# Altium integrated library National Semiconductor MiscPower.IntLib: 1552 symbols (part 24 of 43)
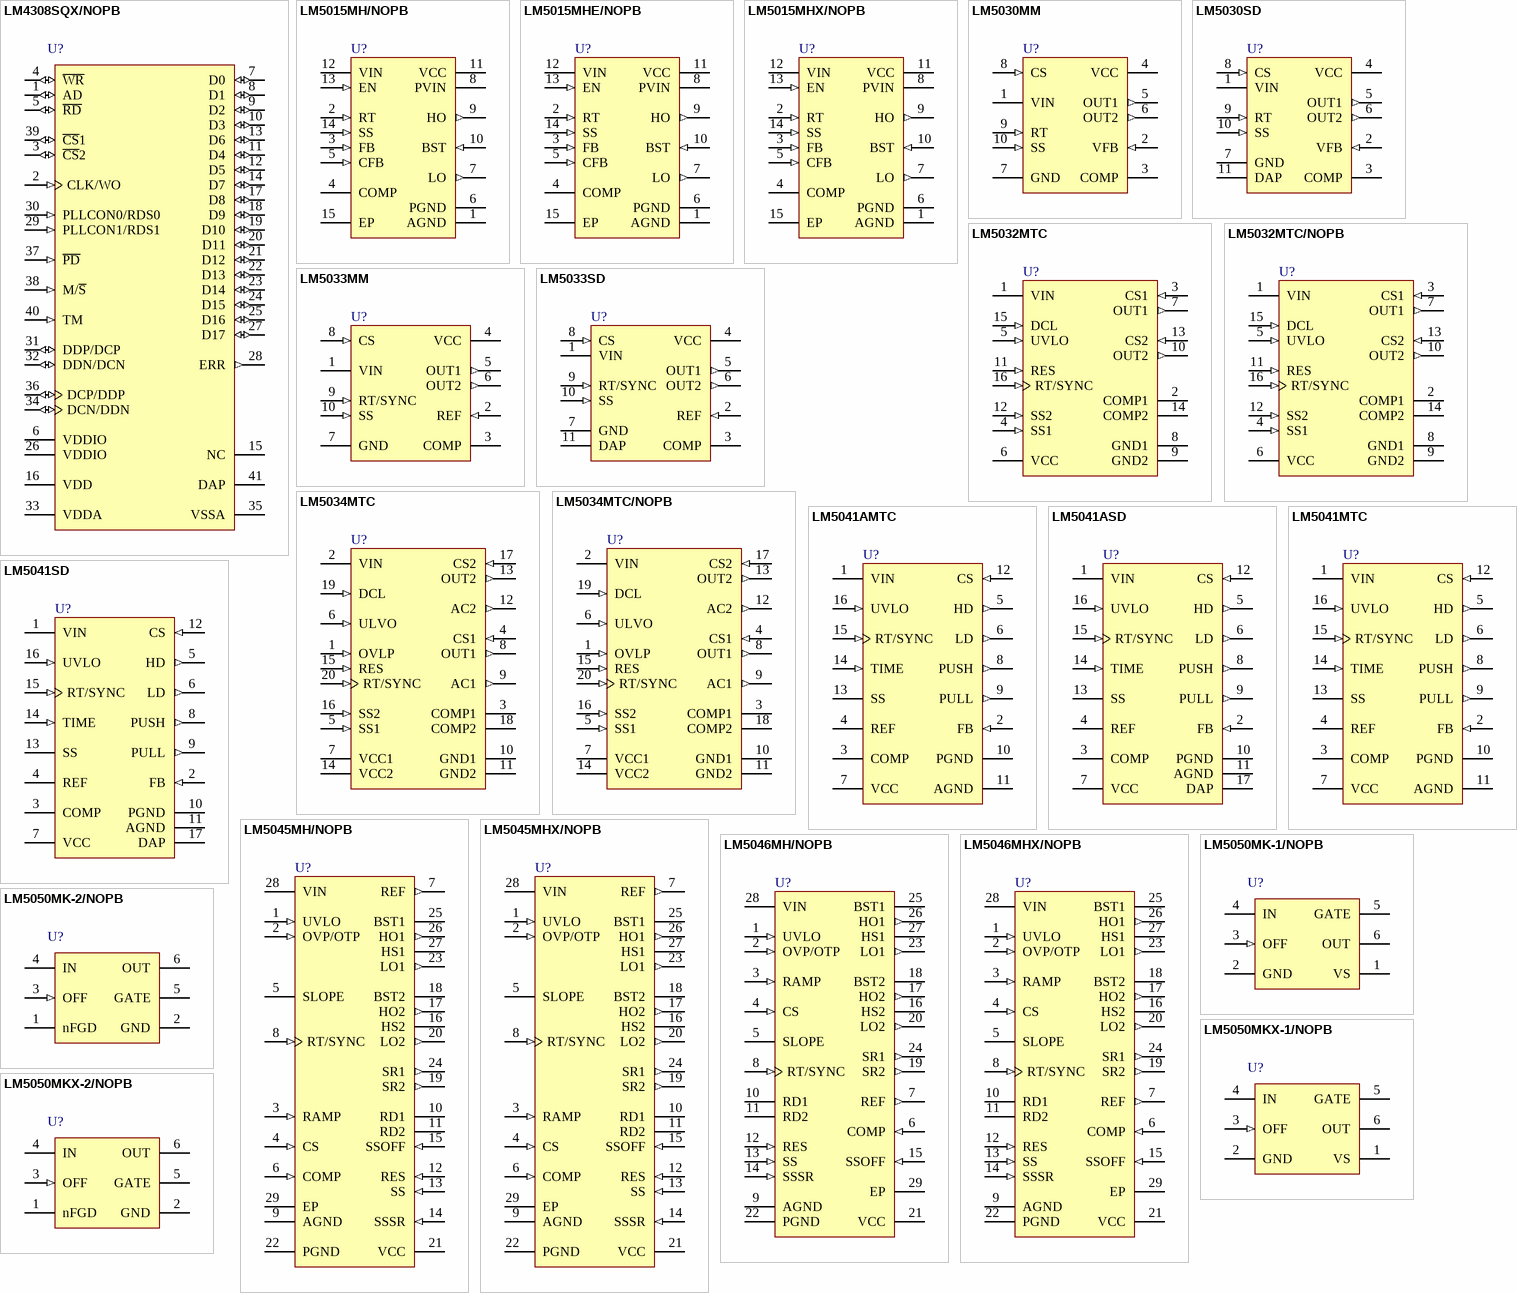
[diagram p80: symbols LM4308SQX/NOPB to LM5050MKX-2/NOPB]

## LM5034MTC/NOPB
designator U?
High Voltage Dual Interleaved Current Mode Controller with Active Clamp, 20-pin TSSOP, Pb-Free; PartNumber: LM5034MTC/NOPB; Manufacturer: National Semiconductor; PackageTopMarking: NSUZXYTT*LM5034*MT; PowerWise: Y; CompType: MiscPower; DatasheetVersion: Feb-2005; PackageVersion: revE, Mar-2003; PackageReference: MTC20; PackageDescription: Molded TSSOP, Jedec, 6.5 x 4.4 x 0.9mm Body, 20 Lead, 0.65mm Pitch; RoHS: Y; PinCount: 20; High-Reliability: Y; Code_JEDEC: MO-153-AC; ComponentLink1Description: Manufacturer URL; ComponentLink1URL: http://www.national.com/; ComponentLink2Description: LM5034 Datasheet; ComponentLink2URL: http://www.national.com/ds/LM/LM5034.pdf; ComponentLink3Description: LM5034 Web Page; ComponentLink3URL: http://www.national.com/pf/LM/LM5034.html; ComponentLink4Description: MTC20 Package Page; ComponentLink4URL: http://www.national.com/packaging/folders/mtc20.html
footprint MTC20_N (TSOP, 20-Leads, Body 6.5x4.4mm, Pitch 0.65mm, IPC Medium Density)
footprint MTC20_L (TSOP, 20-Leads, Body 6.5x4.4mm, Pitch 0.65mm, IPC High Density)
footprint MTC20_M (TSOP, 20-Leads, Body 6.5x4.4mm, Pitch 0.65mm, IPC Low Density)
pins: 1 OVLP (in), 2 VIN (power), 3 COMP1, 4 CS1 (in), 5 SS1 (in), 6 ULVO (in), 7 VCC1 (power), 8 OUT1 (out), 9 AC1 (out), 10 GND1 (power), 11 GND2 (power), 12 AC2 (out), 13 OUT2 (out), 14 VCC2 (power), 15 RES (in), 16 SS2 (in), 17 CS2 (in), 18 COMP2, 19 DCL (in), 20 RT/SYNC (in)

## LM5041AMTC
designator U?
Cascaded PWM Controller, 16-pin TSSOP; PartNumber: LM5041AMTC; Manufacturer: National Semiconductor; PackageTopMarking: NSUZXYTT*LM5041A*MTC; PowerWise: Y; CompType: MiscPower; DatasheetVersion: May-2005; PackageVersion: revD, Jun-2003; PackageReference: MTC16; PackageDescription: Molded TSSOP, Jedec, 5 x 4.4 x 0.9mm Body, 16 Lead, 0.65mm Pitch; RoHS: N; PinCount: 16; High-Reliability: Y; Code_JEDEC: MO-153-AB; ComponentLink1Description: Manufacturer URL; ComponentLink1URL: http://www.national.com/; ComponentLink2Description: LM5041A Datasheet; ComponentLink2URL: http://www.national.com/ds/LM/LM5041A.pdf; ComponentLink3Description: LM5041A Web Page; ComponentLink3URL: http://www.national.com/pf/LM/LM5041A.html; ComponentLink4Description: MTC16 Package Page; ComponentLink4URL: http://www.national.com/packaging/folders/mtc16.html
footprint MTC16_N (TSOP, 16-Leads, Body 5x4.4mm, Pitch 0.65mm, IPC Medium Density)
footprint MTC16_L (TSOP, 16-Leads, Body 5x4.4mm, Pitch 0.65mm, IPC High Density)
footprint MTC16_M (TSOP, 16-Leads, Body 5x4.4mm, Pitch 0.65mm, IPC Low Density)
pins: 1 VIN (power), 2 FB (in), 3 COMP, 4 REF (power), 5 HD (out), 6 LD (out), 7 VCC (power), 8 PUSH (out), 9 PULL (out), 10 PGND (power), 11 AGND (power), 12 CS (in), 13 SS, 14 TIME (in), 15 RT/SYNC (in), 16 UVLO (in)

## LM5041ASD
designator U?
Cascaded PWM Controller, 16-pin LLP; PartNumber: LM5041ASD; Manufacturer: National Semiconductor; PackageTopMarking: NS*UZXYTT*5041ASD; PowerWise: Y; CompType: MiscPower; DatasheetVersion: May-2005; PackageVersion: revA, May-2003; PackageReference: SDA16A; PackageDescription: LLP, Plastic, Dual, 5 x 5 x 0.8mm Body,16 Lead, 0.5mm Pitch, No Pullback; RoHS: N; PinCount: 16; High-Reliability: Y; ComponentLink1Description: Manufacturer URL; ComponentLink1URL: http://www.national.com/; ComponentLink2Description: LM5041A Datasheet; ComponentLink2URL: http://www.national.com/ds/LM/LM5041A.pdf; ComponentLink3Description: LM5041A Web Page; ComponentLink3URL: http://www.national.com/pf/LM/LM5041A.html; ComponentLink4Description: SDA16A Package Page; ComponentLink4URL: http://www.national.com/packaging/folders/sda16a.html
footprint SDA16A (SON, 16-Leads, Body 5x5mm, Pitch 0.5mm, NSC Recommended)
pins: 1 VIN (power), 2 FB (in), 3 COMP, 4 REF (power), 5 HD (out), 6 LD (out), 7 VCC (power), 8 PUSH (out), 9 PULL (out), 10 PGND (power), 11 AGND (power), 12 CS (in), 13 SS, 14 TIME (in), 15 RT/SYNC (in), 16 UVLO (in), 17 DAP (power)

## LM5041MTC
designator U?
Cascaded PWM Controller, 16-pin TSSOP; PartNumber: LM5041MTC; Manufacturer: National Semiconductor; PackageTopMarking: NSZXYTT*LM5041*MTC; PowerWise: Y; CompType: MiscPower; DatasheetVersion: Apr-2004; PackageVersion: revD, Jun-2003; PackageReference: MTC16; PackageDescription: Molded TSSOP, Jedec, 5 x 4.4 x 0.9mm Body, 16 Lead, 0.65mm Pitch; RoHS: N; PinCount: 16; High-Reliability: Y; Code_JEDEC: MO-153-AB; ComponentLink1Description: Manufacturer URL; ComponentLink1URL: http://www.national.com/; ComponentLink2Description: LM5041 Datasheet; ComponentLink2URL: http://www.national.com/ds/LM/LM5041.pdf; ComponentLink3Description: LM5041 Web Page; ComponentLink3URL: http://www.national.com/pf/LM/LM5041.html; ComponentLink4Description: MTC16 Package Page; ComponentLink4URL: http://www.national.com/packaging/folders/mtc16.html
footprint MTC16_N (TSOP, 16-Leads, Body 5x4.4mm, Pitch 0.65mm, IPC Medium Density)
footprint MTC16_L (TSOP, 16-Leads, Body 5x4.4mm, Pitch 0.65mm, IPC High Density)
footprint MTC16_M (TSOP, 16-Leads, Body 5x4.4mm, Pitch 0.65mm, IPC Low Density)
pins: 1 VIN (power), 2 FB (in), 3 COMP, 4 REF (power), 5 HD (out), 6 LD (out), 7 VCC (power), 8 PUSH (out), 9 PULL (out), 10 PGND (power), 11 AGND (power), 12 CS (in), 13 SS, 14 TIME (in), 15 RT/SYNC (in), 16 UVLO (in)

## LM5041SD
designator U?
Cascaded PWM Controller, 16-pin LLP; PartNumber: LM5041SD; Manufacturer: National Semiconductor; PackageTopMarking: NS*UZXYTT*5041SD; PowerWise: Y; CompType: MiscPower; DatasheetVersion: Apr-2004; PackageVersion: revA, May-2003; PackageReference: SDA16A; PackageDescription: LLP, Plastic, Dual, 5 x 5 x 0.8mm Body,16 Lead, 0.5mm Pitch, No Pullback; RoHS: N; PinCount: 16; High-Reliability: Y; ComponentLink1Description: Manufacturer URL; ComponentLink1URL: http://www.national.com/; ComponentLink2Description: LM5041 Datasheet; ComponentLink2URL: http://www.national.com/ds/LM/LM5041.pdf; ComponentLink3Description: LM5041 Web Page; ComponentLink3URL: http://www.national.com/pf/LM/LM5041.html; ComponentLink4Description: SDA16A Package Page; ComponentLink4URL: http://www.national.com/packaging/folders/sda16a.html
footprint SDA16A (SON, 16-Leads, Body 5x5mm, Pitch 0.5mm, NSC Recommended)
pins: 1 VIN (power), 2 FB (in), 3 COMP, 4 REF (power), 5 HD (out), 6 LD (out), 7 VCC (power), 8 PUSH (out), 9 PULL (out), 10 PGND (power), 11 AGND (power), 12 CS (in), 13 SS, 14 TIME (in), 15 RT/SYNC (in), 16 UVLO (in), 17 DAP (power)

## LM5045MH/NOPB
designator U?
Full-Bridge PWM Controller with Integrated MOSFET Drivers, 28-pin TSSOP-EP, 48 Rail; PartNumber: LM5045MH/NOPB; Manufacturer: National Semiconductor; PackageTopMarking: NSUZXYTTE#*LM5045*MH; PowerWise: Y; CompType: Switcher; DatasheetVersion: Oct-2011; PackageVersion: revD, Oct-2003; PackageReference: MXA28A; PackageDescription: Molded TSSOP, Jedec, 9.7 x 4.4 x 0.9mm Body, 28 Lead, 0.65mm Pitch, Exposed Pad; RoHS: Y; PinCount: 28; High-Reliability: Y; Code_JEDEC: MO-153-AET; ComponentLink1Description: Manufacturer URL; ComponentLink1URL: http://www.national.com/; ComponentLink2Description: LM5045 Datasheet; ComponentLink2URL: http://www.national.com/ds/LM/LM5045.pdf; ComponentLink3Description: LM5045 Web Page; ComponentLink3URL: http://www.national.com/pf/LM/LM5045.html; ComponentLink4Description: MXA28A Package Page; ComponentLink4URL: http://www.national.com/packaging/folders/mxa28a.html
footprint MXA28A_N (TSOP, 28-Leads, Body 9.7x4.4mm, Pitch 0.65mm, Thermal Pad, IPC Medium Density)
footprint MXA28A_L (TSOP, 28-Leads, Body 9.7x4.4mm, Pitch 0.65mm, Thermal Pad, IPC High Density)
footprint MXA28A_M (TSOP, 28-Leads, Body 9.7x4.4mm, Pitch 0.65mm, Thermal Pad, IPC Low Density)
pins: 1 UVLO (in), 2 OVP/OTP (in), 3 RAMP (in), 4 CS (in), 5 SLOPE, 6 COMP (in), 7 REF (out), 8 RT/SYNC (in), 9 AGND (power), 10 RD1, 11 RD2, 12 RES (in), 13 SS (in), 14 SSSR (in), 15 SSOFF (in), 16 HS2, 17 HO2 (out), 18 BST2, 19 SR2 (out), 20 LO2 (out), 21 VCC (power), 22 PGND (power), 23 LO1 (out), 24 SR1 (out), 25 BST1, 26 HO1 (out), 27 HS1, 28 VIN (power), 29 EP (power)

## LM5045MHX/NOPB
designator U?
Full-Bridge PWM Controller with Integrated MOSFET Drivers, 28-pin TSSOP-EP, 2500 Reel; PartNumber: LM5045MHX/NOPB; Manufacturer: National Semiconductor; PackageTopMarking: NSUZXYTTE#*LM5045*MH; PowerWise: Y; CompType: Switcher; DatasheetVersion: Oct-2011; PackageVersion: revD, Oct-2003; PackageReference: MXA28A; PackageDescription: Molded TSSOP, Jedec, 9.7 x 4.4 x 0.9mm Body, 28 Lead, 0.65mm Pitch, Exposed Pad; RoHS: Y; PinCount: 28; High-Reliability: Y; Code_JEDEC: MO-153-AET; ComponentLink1Description: Manufacturer URL; ComponentLink1URL: http://www.national.com/; ComponentLink2Description: LM5045 Datasheet; ComponentLink2URL: http://www.national.com/ds/LM/LM5045.pdf; ComponentLink3Description: LM5045 Web Page; ComponentLink3URL: http://www.national.com/pf/LM/LM5045.html; ComponentLink4Description: MXA28A Package Page; ComponentLink4URL: http://www.national.com/packaging/folders/mxa28a.html
footprint MXA28A_N (TSOP, 28-Leads, Body 9.7x4.4mm, Pitch 0.65mm, Thermal Pad, IPC Medium Density)
footprint MXA28A_L (TSOP, 28-Leads, Body 9.7x4.4mm, Pitch 0.65mm, Thermal Pad, IPC High Density)
footprint MXA28A_M (TSOP, 28-Leads, Body 9.7x4.4mm, Pitch 0.65mm, Thermal Pad, IPC Low Density)
pins: 1 UVLO (in), 2 OVP/OTP (in), 3 RAMP (in), 4 CS (in), 5 SLOPE, 6 COMP (in), 7 REF (out), 8 RT/SYNC (in), 9 AGND (power), 10 RD1, 11 RD2, 12 RES (in), 13 SS (in), 14 SSSR (in), 15 SSOFF (in), 16 HS2, 17 HO2 (out), 18 BST2, 19 SR2 (out), 20 LO2 (out), 21 VCC (power), 22 PGND (power), 23 LO1 (out), 24 SR1 (out), 25 BST1, 26 HO1 (out), 27 HS1, 28 VIN (power), 29 EP (power)

## LM5046MH/NOPB
designator U?
Phase-Shifted Full-Bridge PWM Controller with Integrated MOSFET Drivers, 28-pin TSSOP-EP, 48 Rail; PartNumber: LM5046MH/NOPB; Manufacturer: National Semiconductor; PackageTopMarking: NSUZXYTTE#*LM5046*MH; PowerWise: Y; CompType: MiscPower; DatasheetVersion: Oct-2011; PackageVersion: revD, Oct-2003; PackageReference: MXA28A; PackageDescription: Molded TSSOP, Jedec, 9.7 x 4.4 x 0.9mm Body, 28 Lead, 0.65mm Pitch, Exposed Pad; RoHS: Y; PinCount: 28; High-Reliability: Y; Code_JEDEC: MO-153-AET; ComponentLink1Description: Manufacturer URL; ComponentLink1URL: http://www.national.com/; ComponentLink2Description: LM5046 Datasheet; ComponentLink2URL: http://www.national.com/ds/LM/LM5046.pdf; ComponentLink3Description: LM5046 Web Page; ComponentLink3URL: http://www.national.com/pf/LM/LM5046.html; ComponentLink4Description: MXA28A Package Page; ComponentLink4URL: http://www.national.com/packaging/folders/mxa28a.html
footprint MXA28A_N (TSOP, 28-Leads, Body 9.7x4.4mm, Pitch 0.65mm, Thermal Pad, IPC Medium Density)
footprint MXA28A_L (TSOP, 28-Leads, Body 9.7x4.4mm, Pitch 0.65mm, Thermal Pad, IPC High Density)
footprint MXA28A_M (TSOP, 28-Leads, Body 9.7x4.4mm, Pitch 0.65mm, Thermal Pad, IPC Low Density)
pins: 1 UVLO (in), 2 OVP/OTP (in), 3 RAMP (in), 4 CS (in), 5 SLOPE, 6 COMP (in), 7 REF (out), 8 RT/SYNC (in), 9 AGND (power), 10 RD1, 11 RD2, 12 RES (in), 13 SS (in), 14 SSSR (in), 15 SSOFF (in), 16 HS2, 17 HO2 (out), 18 BST2, 19 SR2 (out), 20 LO2 (out), 21 VCC (power), 22 PGND (power), 23 LO1 (out), 24 SR1 (out), 25 BST1, 26 HO1 (out), 27 HS1, 28 VIN (power), 29 EP (power)

## LM5046MHX/NOPB
designator U?
Phase-Shifted Full-Bridge PWM Controller with Integrated MOSFET Drivers, 28-pin TSSOP-EP, 2500 Reel; PartNumber: LM5046MHX/NOPB; Manufacturer: National Semiconductor; PackageTopMarking: NSUZXYTTE#*LM5046*MH; PowerWise: Y; CompType: MiscPower; DatasheetVersion: Oct-2011; PackageVersion: revD, Oct-2003; PackageReference: MXA28A; PackageDescription: Molded TSSOP, Jedec, 9.7 x 4.4 x 0.9mm Body, 28 Lead, 0.65mm Pitch, Exposed Pad; RoHS: Y; PinCount: 28; High-Reliability: Y; Code_JEDEC: MO-153-AET; ComponentLink1Description: Manufacturer URL; ComponentLink1URL: http://www.national.com/; ComponentLink2Description: LM5046 Datasheet; ComponentLink2URL: http://www.national.com/ds/LM/LM5046.pdf; ComponentLink3Description: LM5046 Web Page; ComponentLink3URL: http://www.national.com/pf/LM/LM5046.html; ComponentLink4Description: MXA28A Package Page; ComponentLink4URL: http://www.national.com/packaging/folders/mxa28a.html
footprint MXA28A_N (TSOP, 28-Leads, Body 9.7x4.4mm, Pitch 0.65mm, Thermal Pad, IPC Medium Density)
footprint MXA28A_L (TSOP, 28-Leads, Body 9.7x4.4mm, Pitch 0.65mm, Thermal Pad, IPC High Density)
footprint MXA28A_M (TSOP, 28-Leads, Body 9.7x4.4mm, Pitch 0.65mm, Thermal Pad, IPC Low Density)
pins: 1 UVLO (in), 2 OVP/OTP (in), 3 RAMP (in), 4 CS (in), 5 SLOPE, 6 COMP (in), 7 REF (out), 8 RT/SYNC (in), 9 AGND (power), 10 RD1, 11 RD2, 12 RES (in), 13 SS (in), 14 SSSR (in), 15 SSOFF (in), 16 HS2, 17 HO2 (out), 18 BST2, 19 SR2 (out), 20 LO2 (out), 21 VCC (power), 22 PGND (power), 23 LO1 (out), 24 SR1 (out), 25 BST1, 26 HO1 (out), 27 HS1, 28 VIN (power), 29 EP (power)

## LM5050MK-1/NOPB
designator U?
High Side OR-ing FET Controller, 6-pin TSOT, 1000 Reel; PartNumber: LM5050MK-1/NOPB; Manufacturer: National Semiconductor; PackageTopMarking: SZHB*XTT; PowerWise: Y; CompType: MiscPower; DatasheetVersion: Sep-2011; PackageVersion: revE, Nov-2008; PackageReference: MK06A; PackageDescription: Molded TSOT, 2.97 x 1.65 x 0.87mm Body, 6 Lead, 0.95mm Pitch; RoHS: Y; PinCount: 6; High-Reliability: Y; Code_JEDEC: MO-193-AA; Code_IPC: SOT26A-6; ComponentLink1Description: Manufacturer URL; ComponentLink1URL: http://www.national.com/; ComponentLink2Description: LM5050-1 Datasheet; ComponentLink2URL: http://www.national.com/ds/LM/LM5050-1.pdf; ComponentLink3Description: LM5050-1 Web Page; ComponentLink3URL: http://www.national.com/pf/LM/LM5050-1.html; ComponentLink4Description: MK06A Package Page; ComponentLink4URL: http://www.national.com/packaging/folders/mk06a.html
footprint MK06A_N (SOT23, 6-Leads, Body 3.0x1.7mm, Pitch 0.95mm, Lead Span 2.9mm, IPC Medium Density)
footprint MK06A_L (SOT23, 6-Leads, Body 3.0x1.7mm, Pitch 0.95mm, Lead Span 2.9mm, IPC High Density)
footprint MK06A_M (SOT23, 6-Leads, Body 3.0x1.7mm, Pitch 0.95mm, Lead Span 2.9mm, IPC Low Density)
pins: 1 VS (power), 2 GND (power), 3 OFF (in), 4 IN (power), 5 GATE (power), 6 OUT (power)

## LM5050MK-2/NOPB
designator U?
High Side OR-ing FET Controller, FET test diagnostic mode, 6-pin TSOT, 1000 Reel; PartNumber: LM5050MK-2/NOPB; Manufacturer: National Semiconductor; PackageTopMarking: SZJB*XTT; PowerWise: Y; CompType: MiscPower; DatasheetVersion: Nov-2010; PackageVersion: revE, Nov-2008; PackageReference: MK06A; PackageDescription: Molded TSOT, 2.97 x 1.65 x 0.87mm Body, 6 Lead, 0.95mm Pitch; RoHS: Y; PinCount: 6; High-Reliability: Y; Code_JEDEC: MO-193-AA; Code_IPC: SOT26A-6; ComponentLink1Description: Manufacturer URL; ComponentLink1URL: http://www.national.com/; ComponentLink2Description: LM5050-2 Datasheet; ComponentLink2URL: http://www.national.com/ds/LM/LM5050-2.pdf; ComponentLink3Description: LM5050-2 Web Page; ComponentLink3URL: http://www.national.com/pf/LM/LM5050-2.html; ComponentLink4Description: MK06A Package Page; ComponentLink4URL: http://www.national.com/packaging/folders/mk06a.html
footprint MK06A_N (SOT23, 6-Leads, Body 3.0x1.7mm, Pitch 0.95mm, Lead Span 2.9mm, IPC Medium Density)
footprint MK06A_L (SOT23, 6-Leads, Body 3.0x1.7mm, Pitch 0.95mm, Lead Span 2.9mm, IPC High Density)
footprint MK06A_M (SOT23, 6-Leads, Body 3.0x1.7mm, Pitch 0.95mm, Lead Span 2.9mm, IPC Low Density)
pins: 1 nFGD (oc), 2 GND (power), 3 OFF (in), 4 IN, 5 GATE, 6 OUT

## LM5050MKX-1/NOPB
designator U?
High Side OR-ing FET Controller, 6-pin TSOT, 3000 Reel; PartNumber: LM5050MKX-1/NOPB; Manufacturer: National Semiconductor; PackageTopMarking: SZHB*XTT; PowerWise: Y; CompType: MiscPower; DatasheetVersion: Sep-2011; PackageVersion: revE, Nov-2008; PackageReference: MK06A; PackageDescription: Molded TSOT, 2.97 x 1.65 x 0.87mm Body, 6 Lead, 0.95mm Pitch; RoHS: Y; PinCount: 6; High-Reliability: Y; Code_JEDEC: MO-193-AA; Code_IPC: SOT26A-6; ComponentLink1Description: Manufacturer URL; ComponentLink1URL: http://www.national.com/; ComponentLink2Description: LM5050-1 Datasheet; ComponentLink2URL: http://www.national.com/ds/LM/LM5050-1.pdf; ComponentLink3Description: LM5050-1 Web Page; ComponentLink3URL: http://www.national.com/pf/LM/LM5050-1.html; ComponentLink4Description: MK06A Package Page; ComponentLink4URL: http://www.national.com/packaging/folders/mk06a.html
footprint MK06A_N (SOT23, 6-Leads, Body 3.0x1.7mm, Pitch 0.95mm, Lead Span 2.9mm, IPC Medium Density)
footprint MK06A_L (SOT23, 6-Leads, Body 3.0x1.7mm, Pitch 0.95mm, Lead Span 2.9mm, IPC High Density)
footprint MK06A_M (SOT23, 6-Leads, Body 3.0x1.7mm, Pitch 0.95mm, Lead Span 2.9mm, IPC Low Density)
pins: 1 VS (power), 2 GND (power), 3 OFF (in), 4 IN (power), 5 GATE (power), 6 OUT (power)

## LM5050MKX-2/NOPB
designator U?
High Side OR-ing FET Controller, FET test diagnostic mode, 6-pin TSOT, 3000 Reel; PartNumber: LM5050MKX-2/NOPB; Manufacturer: National Semiconductor; PackageTopMarking: SZJB*XTT; PowerWise: Y; CompType: MiscPower; DatasheetVersion: Nov-2010; PackageVersion: revE, Nov-2008; PackageReference: MK06A; PackageDescription: Molded TSOT, 2.97 x 1.65 x 0.87mm Body, 6 Lead, 0.95mm Pitch; RoHS: Y; PinCount: 6; High-Reliability: Y; Code_JEDEC: MO-193-AA; Code_IPC: SOT26A-6; ComponentLink1Description: Manufacturer URL; ComponentLink1URL: http://www.national.com/; ComponentLink2Description: LM5050-2 Datasheet; ComponentLink2URL: http://www.national.com/ds/LM/LM5050-2.pdf; ComponentLink3Description: LM5050-2 Web Page; ComponentLink3URL: http://www.national.com/pf/LM/LM5050-2.html; ComponentLink4Description: MK06A Package Page; ComponentLink4URL: http://www.national.com/packaging/folders/mk06a.html
footprint MK06A_N (SOT23, 6-Leads, Body 3.0x1.7mm, Pitch 0.95mm, Lead Span 2.9mm, IPC Medium Density)
footprint MK06A_L (SOT23, 6-Leads, Body 3.0x1.7mm, Pitch 0.95mm, Lead Span 2.9mm, IPC High Density)
footprint MK06A_M (SOT23, 6-Leads, Body 3.0x1.7mm, Pitch 0.95mm, Lead Span 2.9mm, IPC Low Density)
pins: 1 nFGD (oc), 2 GND (power), 3 OFF (in), 4 IN, 5 GATE, 6 OUT

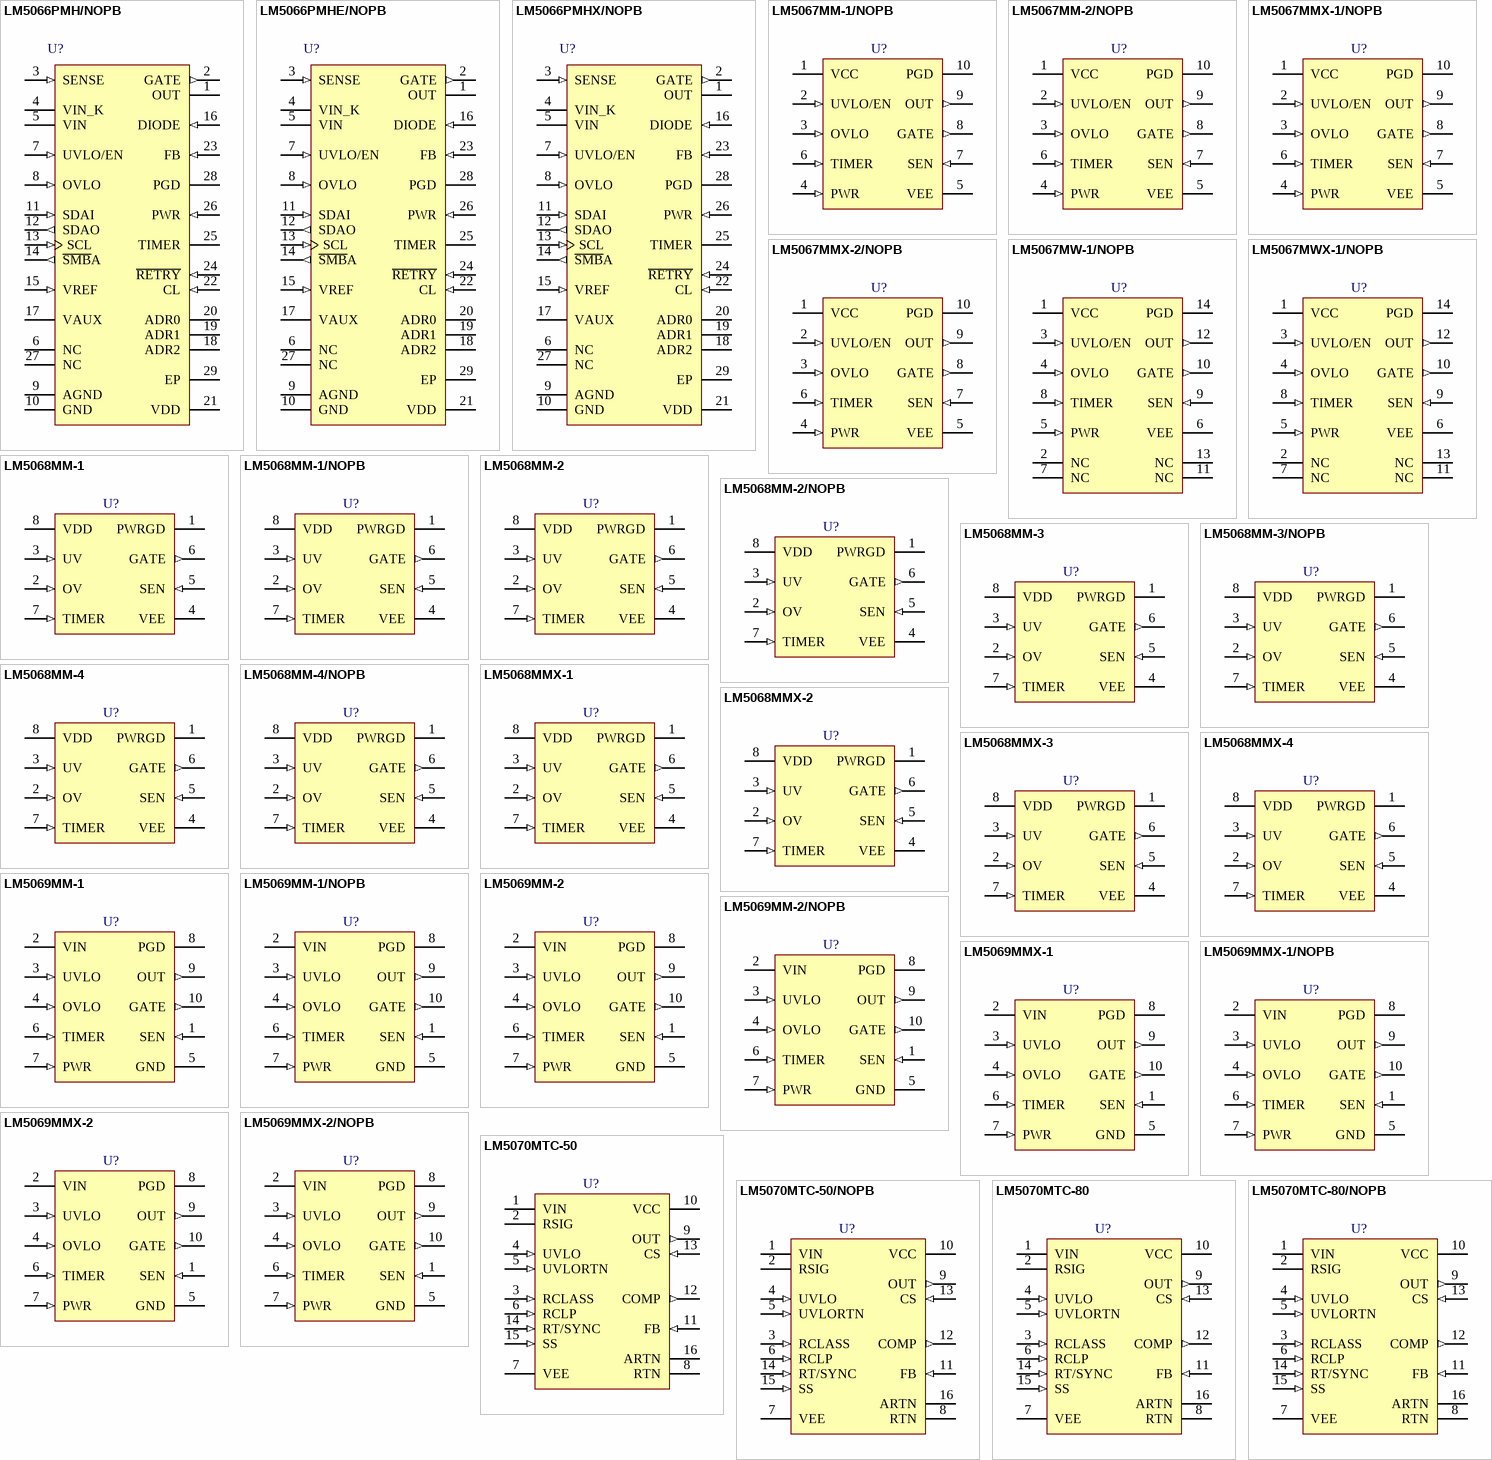
[diagram p27: symbols LM5066PMH/NOPB to LM5070MTC-80/NOPB]

## LM5066PMH/NOPB
designator U?
High Voltage System Power Management and Protection IC with PMBus, 28-pin TSSOP-EP, 48 Rail; PartNumber: LM5066PMH/NOPB; Manufacturer: National Semiconductor; PackageTopMarking: NSUZXYTTE#*LM5066PMH; PowerWise: Y; CompType: MiscPower; DatasheetVersion: Aug-2011; PackageVersion: revD, Oct-2003; PackageReference: MXA28A; PackageDescription: Molded TSSOP, Jedec, 9.7 x 4.4 x 0.9mm Body, 28 Lead, 0.65mm Pitch, Exposed Pad; RoHS: Y; PinCount: 28; High-Reliability: Y; Code_JEDEC: MO-153-AET; ComponentLink1Description: Manufacturer URL; ComponentLink1URL: http://www.national.com/; ComponentLink2Description: LM5066 Datasheet; ComponentLink2URL: http://www.national.com/ds/LM/LM5066.pdf; ComponentLink3Description: LM5066 Web Page; ComponentLink3URL: http://www.national.com/pf/LM/LM5066.html; ComponentLink4Description: MXA28A Package Page; ComponentLink4URL: http://www.national.com/packaging/folders/mxa28a.html
footprint MXA28A_N (TSOP, 28-Leads, Body 9.7x4.4mm, Pitch 0.65mm, Thermal Pad, IPC Medium Density)
footprint MXA28A_L (TSOP, 28-Leads, Body 9.7x4.4mm, Pitch 0.65mm, Thermal Pad, IPC High Density)
footprint MXA28A_M (TSOP, 28-Leads, Body 9.7x4.4mm, Pitch 0.65mm, Thermal Pad, IPC Low Density)
pins: 1 OUT (power), 2 GATE (out), 3 SENSE (in), 4 VIN_K (power), 5 VIN (power), 6 NC, 7 UVLO/EN (in), 8 OVLO (in), 9 AGND (power), 10 GND (power), 11 SDAI (in), 12 SDAO (out), 13 SCL (in), 14 ~{SMB}A (out), 15 VREF (in), 16 DIODE (in), 17 VAUX (power), 18 ADR2, 19 ADR1, 20 ADR0, 21 VDD (power), 22 CL (in), 23 FB (in), 24 ~{RETRY} (in), 25 TIMER, 26 PWR (in), 27 NC, 28 PGD (hiz), 29 EP (power)

## LM5066PMHE/NOPB
designator U?
High Voltage System Power Management and Protection IC with PMBus, 28-pin TSSOP-EP, 250 Reel; PartNumber: LM5066PMHE/NOPB; Manufacturer: National Semiconductor; PackageTopMarking: NSUZXYTTE#*LM5066PMH; PowerWise: Y; CompType: MiscPower; DatasheetVersion: Aug-2011; PackageVersion: revD, Oct-2003; PackageReference: MXA28A; PackageDescription: Molded TSSOP, Jedec, 9.7 x 4.4 x 0.9mm Body, 28 Lead, 0.65mm Pitch, Exposed Pad; RoHS: Y; PinCount: 28; High-Reliability: Y; Code_JEDEC: MO-153-AET; ComponentLink1Description: Manufacturer URL; ComponentLink1URL: http://www.national.com/; ComponentLink2Description: LM5066 Datasheet; ComponentLink2URL: http://www.national.com/ds/LM/LM5066.pdf; ComponentLink3Description: LM5066 Web Page; ComponentLink3URL: http://www.national.com/pf/LM/LM5066.html; ComponentLink4Description: MXA28A Package Page; ComponentLink4URL: http://www.national.com/packaging/folders/mxa28a.html
footprint MXA28A_N (TSOP, 28-Leads, Body 9.7x4.4mm, Pitch 0.65mm, Thermal Pad, IPC Medium Density)
footprint MXA28A_L (TSOP, 28-Leads, Body 9.7x4.4mm, Pitch 0.65mm, Thermal Pad, IPC High Density)
footprint MXA28A_M (TSOP, 28-Leads, Body 9.7x4.4mm, Pitch 0.65mm, Thermal Pad, IPC Low Density)
pins: 1 OUT (power), 2 GATE (out), 3 SENSE (in), 4 VIN_K (power), 5 VIN (power), 6 NC, 7 UVLO/EN (in), 8 OVLO (in), 9 AGND (power), 10 GND (power), 11 SDAI (in), 12 SDAO (out), 13 SCL (in), 14 ~{SMB}A (out), 15 VREF (in), 16 DIODE (in), 17 VAUX (power), 18 ADR2, 19 ADR1, 20 ADR0, 21 VDD (power), 22 CL (in), 23 FB (in), 24 ~{RETRY} (in), 25 TIMER, 26 PWR (in), 27 NC, 28 PGD (hiz), 29 EP (power)

## LM5066PMHX/NOPB
designator U?
High Voltage System Power Management and Protection IC with PMBus, 28-pin TSSOP-EP, 2500 Reel; PartNumber: LM5066PMHX/NOPB; Manufacturer: National Semiconductor; PackageTopMarking: NSUZXYTTE#*LM5066PMH; PowerWise: Y; CompType: MiscPower; DatasheetVersion: Aug-2011; PackageVersion: revD, Oct-2003; PackageReference: MXA28A; PackageDescription: Molded TSSOP, Jedec, 9.7 x 4.4 x 0.9mm Body, 28 Lead, 0.65mm Pitch, Exposed Pad; RoHS: Y; PinCount: 28; High-Reliability: Y; Code_JEDEC: MO-153-AET; ComponentLink1Description: Manufacturer URL; ComponentLink1URL: http://www.national.com/; ComponentLink2Description: LM5066 Datasheet; ComponentLink2URL: http://www.national.com/ds/LM/LM5066.pdf; ComponentLink3Description: LM5066 Web Page; ComponentLink3URL: http://www.national.com/pf/LM/LM5066.html; ComponentLink4Description: MXA28A Package Page; ComponentLink4URL: http://www.national.com/packaging/folders/mxa28a.html
footprint MXA28A_N (TSOP, 28-Leads, Body 9.7x4.4mm, Pitch 0.65mm, Thermal Pad, IPC Medium Density)
footprint MXA28A_L (TSOP, 28-Leads, Body 9.7x4.4mm, Pitch 0.65mm, Thermal Pad, IPC High Density)
footprint MXA28A_M (TSOP, 28-Leads, Body 9.7x4.4mm, Pitch 0.65mm, Thermal Pad, IPC Low Density)
pins: 1 OUT (power), 2 GATE (out), 3 SENSE (in), 4 VIN_K (power), 5 VIN (power), 6 NC, 7 UVLO/EN (in), 8 OVLO (in), 9 AGND (power), 10 GND (power), 11 SDAI (in), 12 SDAO (out), 13 SCL (in), 14 ~{SMB}A (out), 15 VREF (in), 16 DIODE (in), 17 VAUX (power), 18 ADR2, 19 ADR1, 20 ADR0, 21 VDD (power), 22 CL (in), 23 FB (in), 24 ~{RETRY} (in), 25 TIMER, 26 PWR (in), 27 NC, 28 PGD (hiz), 29 EP (power)

## LM5067MM-1/NOPB
designator U?
Negative Hot Swap / Inrush Current Controller with Power Limiting, 10-pin MSOP, Pb-Free; PartNumber: LM5067MM-1/NOPB; Manufacturer: National Semiconductor; PackageTopMarking: ZXTT*SRUB; PowerWise: N; CompType: MiscPower; High-Reliability: Y; DatasheetVersion: Sep-2009; PackageVersion: revB, Jul-2003; PackageReference: MUB10A; PackageDescription: Mini-SO, Molded, .118 x .118 x .034in Body, 10 Lead, .0197in Pitch; RoHS: Y; PinCount: 10; Code_JEDEC: MO-187-BA; ComponentLink1Description: Manufacturer URL; ComponentLink1URL: http://www.national.com/; ComponentLink2Description: LM5067 Datasheet; ComponentLink2URL: http://www.national.com/ds/LM/LM5067.pdf; ComponentLink3Description: LM5067 Web Page; ComponentLink3URL: http://www.national.com/pf/LM/LM5067.html; ComponentLink4Description: MUB10A Package Page; ComponentLink4URL: http://www.national.com/packaging/folders/mub10a.html
footprint MUB10A_N (TSSOP, 10-Leads, Body 3x3mm, Pitch 0.5mm, IPC Medium Density)
footprint MUB10A_L (TSSOP, 10-Leads, Body 3x3mm, Pitch 0.5mm, IPC High Density)
footprint MUB10A_M (TSSOP, 10-Leads, Body 3x3mm, Pitch 0.5mm, IPC Low Density)
pins: 1 VCC (power), 2 UVLO/EN (in), 3 OVLO (in), 4 PWR (in), 5 VEE (power), 6 TIMER (in), 7 SEN (in), 8 GATE (out), 9 OUT (out), 10 PGD (oc)

## LM5067MM-2/NOPB
designator U?
Negative Hot Swap / Inrush Current Controller with Power Limiting, 10-pin MSOP, Pb-Free; PartNumber: LM5067MM-2/NOPB; Manufacturer: National Semiconductor; PackageTopMarking: ZXTT*SRVB; PowerWise: N; CompType: MiscPower; High-Reliability: Y; DatasheetVersion: Sep-2009; PackageVersion: revB, Jul-2003; PackageReference: MUB10A; PackageDescription: Mini-SO, Molded, .118 x .118 x .034in Body, 10 Lead, .0197in Pitch; RoHS: Y; PinCount: 10; Code_JEDEC: MO-187-BA; ComponentLink1Description: Manufacturer URL; ComponentLink1URL: http://www.national.com/; ComponentLink2Description: LM5067 Datasheet; ComponentLink2URL: http://www.national.com/ds/LM/LM5067.pdf; ComponentLink3Description: LM5067 Web Page; ComponentLink3URL: http://www.national.com/pf/LM/LM5067.html; ComponentLink4Description: MUB10A Package Page; ComponentLink4URL: http://www.national.com/packaging/folders/mub10a.html
footprint MUB10A_N (TSSOP, 10-Leads, Body 3x3mm, Pitch 0.5mm, IPC Medium Density)
footprint MUB10A_L (TSSOP, 10-Leads, Body 3x3mm, Pitch 0.5mm, IPC High Density)
footprint MUB10A_M (TSSOP, 10-Leads, Body 3x3mm, Pitch 0.5mm, IPC Low Density)
pins: 1 VCC (power), 2 UVLO/EN (in), 3 OVLO (in), 4 PWR (in), 5 VEE (power), 6 TIMER (in), 7 SEN (in), 8 GATE (out), 9 OUT (out), 10 PGD (oc)

## LM5067MMX-1/NOPB
designator U?
Negative Hot Swap / Inrush Current Controller with Power Limiting, 10-pin MSOP, Pb-Free; PartNumber: LM5067MMX-1/NOPB; Manufacturer: National Semiconductor; PackageTopMarking: ZXTT*SRUB; PowerWise: N; CompType: MiscPower; High-Reliability: Y; DatasheetVersion: Sep-2009; PackageVersion: revB, Jul-2003; PackageReference: MUB10A; PackageDescription: Mini-SO, Molded, .118 x .118 x .034in Body, 10 Lead, .0197in Pitch; RoHS: Y; PinCount: 10; Code_JEDEC: MO-187-BA; ComponentLink1Description: Manufacturer URL; ComponentLink1URL: http://www.national.com/; ComponentLink2Description: LM5067 Datasheet; ComponentLink2URL: http://www.national.com/ds/LM/LM5067.pdf; ComponentLink3Description: LM5067 Web Page; ComponentLink3URL: http://www.national.com/pf/LM/LM5067.html; ComponentLink4Description: MUB10A Package Page; ComponentLink4URL: http://www.national.com/packaging/folders/mub10a.html
footprint MUB10A_N (TSSOP, 10-Leads, Body 3x3mm, Pitch 0.5mm, IPC Medium Density)
footprint MUB10A_L (TSSOP, 10-Leads, Body 3x3mm, Pitch 0.5mm, IPC High Density)
footprint MUB10A_M (TSSOP, 10-Leads, Body 3x3mm, Pitch 0.5mm, IPC Low Density)
pins: 1 VCC (power), 2 UVLO/EN (in), 3 OVLO (in), 4 PWR (in), 5 VEE (power), 6 TIMER (in), 7 SEN (in), 8 GATE (out), 9 OUT (out), 10 PGD (oc)

## LM5067MMX-2/NOPB
designator U?
Negative Hot Swap / Inrush Current Controller with Power Limiting, 10-pin MSOP, Pb-Free; PartNumber: LM5067MMX-2/NOPB; Manufacturer: National Semiconductor; PackageTopMarking: ZXTT*SRVB; PowerWise: N; CompType: MiscPower; High-Reliability: Y; DatasheetVersion: Sep-2009; PackageVersion: revB, Jul-2003; PackageReference: MUB10A; PackageDescription: Mini-SO, Molded, .118 x .118 x .034in Body, 10 Lead, .0197in Pitch; RoHS: Y; PinCount: 10; Code_JEDEC: MO-187-BA; ComponentLink1Description: Manufacturer URL; ComponentLink1URL: http://www.national.com/; ComponentLink2Description: LM5067 Datasheet; ComponentLink2URL: http://www.national.com/ds/LM/LM5067.pdf; ComponentLink3Description: LM5067 Web Page; ComponentLink3URL: http://www.national.com/pf/LM/LM5067.html; ComponentLink4Description: MUB10A Package Page; ComponentLink4URL: http://www.national.com/packaging/folders/mub10a.html
footprint MUB10A_N (TSSOP, 10-Leads, Body 3x3mm, Pitch 0.5mm, IPC Medium Density)
footprint MUB10A_L (TSSOP, 10-Leads, Body 3x3mm, Pitch 0.5mm, IPC High Density)
footprint MUB10A_M (TSSOP, 10-Leads, Body 3x3mm, Pitch 0.5mm, IPC Low Density)
pins: 1 VCC (power), 2 UVLO/EN (in), 3 OVLO (in), 4 PWR (in), 5 VEE (power), 6 TIMER (in), 7 SEN (in), 8 GATE (out), 9 OUT (out), 10 PGD (oc)

## LM5067MW-1/NOPB
designator U?
Negative Hot Swap / Inrush Current Controller with Power Limiting, 14-pin Wide SOIC, Pb-Free; PartNumber: LM5067MW-1/NOPB; Manufacturer: National Semiconductor; PackageTopMarking: NSUZXYTTE#*LM5067*MW-1; PowerWise: N; CompType: MiscPower; High-Reliability: Y; DatasheetVersion: Sep-2009; PackageVersion: revD, Feb-1987; PackageReference: M14B; PackageDescription: Molded Package, S.O., .300in Wide, 14 Lead; RoHS: Y; PinCount: 14; Code_JEDEC: MS-013-AF; Code_IPC: SOIC127P1030-14; ComponentLink1Description: Manufacturer URL; ComponentLink1URL: http://www.national.com/; ComponentLink2Description: LM5067 Datasheet; ComponentLink2URL: http://www.national.com/ds/LM/LM5067.pdf; ComponentLink3Description: LM5067 Web Page; ComponentLink3URL: http://www.national.com/pf/LM/LM5067.html; ComponentLink4Description: M14B Package Page; ComponentLink4URL: http://www.national.com/packaging/folders/m14b.html
footprint M14B_N (SOIC, 14-Leads, Body 9x7.5mm, Pitch 1.27mm, IPC Medium Density)
footprint M14B_L (SOIC, 14-Leads, Body 9x7.5mm, Pitch 1.27mm, IPC High Density)
footprint M14B_M (SOIC, 14-Leads, Body 9x7.5mm, Pitch 1.27mm, IPC Low Density)
pins: 1 VCC (power), 2 NC, 3 UVLO/EN (in), 4 OVLO (in), 5 PWR (in), 6 VEE (power), 7 NC, 8 TIMER (in), 9 SEN (in), 10 GATE (out), 11 NC, 12 OUT (out), 13 NC, 14 PGD (oc)

## LM5067MWX-1/NOPB
designator U?
Negative Hot Swap / Inrush Current Controller with Power Limiting, 14-pin Wide SOIC, Pb-Free; PartNumber: LM5067MWX-1/NOPB; Manufacturer: National Semiconductor; PackageTopMarking: NSUZXYTTE#*LM5067*MW-1; PowerWise: N; CompType: MiscPower; High-Reliability: Y; DatasheetVersion: Sep-2009; PackageVersion: revD, Feb-1987; PackageReference: M14B; PackageDescription: Molded Package, S.O., .300in Wide, 14 Lead; RoHS: Y; PinCount: 14; Code_JEDEC: MS-013-AF; Code_IPC: SOIC127P1030-14; ComponentLink1Description: Manufacturer URL; ComponentLink1URL: http://www.national.com/; ComponentLink2Description: LM5067 Datasheet; ComponentLink2URL: http://www.national.com/ds/LM/LM5067.pdf; ComponentLink3Description: LM5067 Web Page; ComponentLink3URL: http://www.national.com/pf/LM/LM5067.html; ComponentLink4Description: M14B Package Page; ComponentLink4URL: http://www.national.com/packaging/folders/m14b.html
footprint M14B_N (SOIC, 14-Leads, Body 9x7.5mm, Pitch 1.27mm, IPC Medium Density)
footprint M14B_L (SOIC, 14-Leads, Body 9x7.5mm, Pitch 1.27mm, IPC High Density)
footprint M14B_M (SOIC, 14-Leads, Body 9x7.5mm, Pitch 1.27mm, IPC Low Density)
pins: 1 VCC (power), 2 NC, 3 UVLO/EN (in), 4 OVLO (in), 5 PWR (in), 6 VEE (power), 7 NC, 8 TIMER (in), 9 SEN (in), 10 GATE (out), 11 NC, 12 OUT (out), 13 NC, 14 PGD (oc)

## LM5068MM-1
designator U?
Negative Voltage Hot Swap Controller, 8-pin MSOP; PartNumber: LM5068MM-1; Manufacturer: National Semiconductor; PackageTopMarking: ZXTT*S66B; PowerWise: N; CompType: MiscPower; High-Reliability: Y; DatasheetVersion: Dec-2004; PackageVersion: revF, Apr-2008; PackageReference: MUA08A; PackageDescription: MINI SOIC, .118 x .118 x .034in, 8 Lead, .0256in Pitch; RoHS: N; PinCount: 8; Code_JEDEC: MO-187-AA; ComponentLink1Description: Manufacturer URL; ComponentLink1URL: http://www.national.com/; ComponentLink2Description: LM5068 Datasheet; ComponentLink2URL: http://www.national.com/ds/LM/LM5068.pdf; ComponentLink3Description: LM5068 Web Page; ComponentLink3URL: http://www.national.com/pf/LM/LM5068.html; ComponentLink4Description: MUA08A Package Page; ComponentLink4URL: http://www.national.com/packaging/folders/mua08a.html
footprint MUA08A_N (TSOP, 8-Leads, Body 3x3mm, Pitch 0.65mm, IPC Medium Density)
footprint MUA08A_L (TSOP, 8-Leads, Body 3x3mm, Pitch 0.65mm, IPC High Density)
footprint MUA08A_M (TSOP, 8-Leads, Body 3x3mm, Pitch 0.65mm, IPC Low Density)
pins: 1 PWRGD (oc), 2 OV (in), 3 UV (in), 4 VEE (power), 5 SEN (in), 6 GATE (out), 7 TIMER (in), 8 VDD (power)

## LM5068MM-1/NOPB
designator U?
Negative Voltage Hot Swap Controller, 8-pin MSOP, Pb-Free; PartNumber: LM5068MM-1/NOPB; Manufacturer: National Semiconductor; PackageTopMarking: ZXTT*S66B; PowerWise: N; CompType: MiscPower; High-Reliability: Y; DatasheetVersion: Dec-2004; PackageVersion: revF, Apr-2008; PackageReference: MUA08A; PackageDescription: MINI SOIC, .118 x .118 x .034in, 8 Lead, .0256in Pitch; RoHS: Y; PinCount: 8; Code_JEDEC: MO-187-AA; ComponentLink1Description: Manufacturer URL; ComponentLink1URL: http://www.national.com/; ComponentLink2Description: LM5068 Datasheet; ComponentLink2URL: http://www.national.com/ds/LM/LM5068.pdf; ComponentLink3Description: LM5068 Web Page; ComponentLink3URL: http://www.national.com/pf/LM/LM5068.html; ComponentLink4Description: MUA08A Package Page; ComponentLink4URL: http://www.national.com/packaging/folders/mua08a.html
footprint MUA08A_N (TSOP, 8-Leads, Body 3x3mm, Pitch 0.65mm, IPC Medium Density)
footprint MUA08A_L (TSOP, 8-Leads, Body 3x3mm, Pitch 0.65mm, IPC High Density)
footprint MUA08A_M (TSOP, 8-Leads, Body 3x3mm, Pitch 0.65mm, IPC Low Density)
pins: 1 PWRGD (oc), 2 OV (in), 3 UV (in), 4 VEE (power), 5 SEN (in), 6 GATE (out), 7 TIMER (in), 8 VDD (power)

## LM5068MM-2
designator U?
Negative Voltage Hot Swap Controller, 8-pin MSOP; PartNumber: LM5068MM-2; Manufacturer: National Semiconductor; PackageTopMarking: ZXTT*S67B; PowerWise: N; CompType: MiscPower; High-Reliability: Y; DatasheetVersion: Dec-2004; PackageVersion: revF, Apr-2008; PackageReference: MUA08A; PackageDescription: MINI SOIC, .118 x .118 x .034in, 8 Lead, .0256in Pitch; RoHS: N; PinCount: 8; Code_JEDEC: MO-187-AA; ComponentLink1Description: Manufacturer URL; ComponentLink1URL: http://www.national.com/; ComponentLink2Description: LM5068 Datasheet; ComponentLink2URL: http://www.national.com/ds/LM/LM5068.pdf; ComponentLink3Description: LM5068 Web Page; ComponentLink3URL: http://www.national.com/pf/LM/LM5068.html; ComponentLink4Description: MUA08A Package Page; ComponentLink4URL: http://www.national.com/packaging/folders/mua08a.html
footprint MUA08A_N (TSOP, 8-Leads, Body 3x3mm, Pitch 0.65mm, IPC Medium Density)
footprint MUA08A_L (TSOP, 8-Leads, Body 3x3mm, Pitch 0.65mm, IPC High Density)
footprint MUA08A_M (TSOP, 8-Leads, Body 3x3mm, Pitch 0.65mm, IPC Low Density)
pins: 1 PWRGD (oc), 2 OV (in), 3 UV (in), 4 VEE (power), 5 SEN (in), 6 GATE (out), 7 TIMER (in), 8 VDD (power)

## LM5068MM-2/NOPB
designator U?
Negative Voltage Hot Swap Controller, 8-pin MSOP, Pb-Free; PartNumber: LM5068MM-2/NOPB; Manufacturer: National Semiconductor; PackageTopMarking: ZXTT*S67B; PowerWise: N; CompType: MiscPower; High-Reliability: Y; DatasheetVersion: Dec-2004; PackageVersion: revF, Apr-2008; PackageReference: MUA08A; PackageDescription: MINI SOIC, .118 x .118 x .034in, 8 Lead, .0256in Pitch; RoHS: Y; PinCount: 8; Code_JEDEC: MO-187-AA; ComponentLink1Description: Manufacturer URL; ComponentLink1URL: http://www.national.com/; ComponentLink2Description: LM5068 Datasheet; ComponentLink2URL: http://www.national.com/ds/LM/LM5068.pdf; ComponentLink3Description: LM5068 Web Page; ComponentLink3URL: http://www.national.com/pf/LM/LM5068.html; ComponentLink4Description: MUA08A Package Page; ComponentLink4URL: http://www.national.com/packaging/folders/mua08a.html
footprint MUA08A_N (TSOP, 8-Leads, Body 3x3mm, Pitch 0.65mm, IPC Medium Density)
footprint MUA08A_L (TSOP, 8-Leads, Body 3x3mm, Pitch 0.65mm, IPC High Density)
footprint MUA08A_M (TSOP, 8-Leads, Body 3x3mm, Pitch 0.65mm, IPC Low Density)
pins: 1 PWRGD (oc), 2 OV (in), 3 UV (in), 4 VEE (power), 5 SEN (in), 6 GATE (out), 7 TIMER (in), 8 VDD (power)

## LM5068MM-3
designator U?
Negative Voltage Hot Swap Controller, 8-pin MSOP; PartNumber: LM5068MM-3; Manufacturer: National Semiconductor; PackageTopMarking: ZXTT*S68B; PowerWise: N; CompType: MiscPower; High-Reliability: Y; DatasheetVersion: Dec-2004; PackageVersion: revF, Apr-2008; PackageReference: MUA08A; PackageDescription: MINI SOIC, .118 x .118 x .034in, 8 Lead, .0256in Pitch; RoHS: N; PinCount: 8; Code_JEDEC: MO-187-AA; ComponentLink1Description: Manufacturer URL; ComponentLink1URL: http://www.national.com/; ComponentLink2Description: LM5068 Datasheet; ComponentLink2URL: http://www.national.com/ds/LM/LM5068.pdf; ComponentLink3Description: LM5068 Web Page; ComponentLink3URL: http://www.national.com/pf/LM/LM5068.html; ComponentLink4Description: MUA08A Package Page; ComponentLink4URL: http://www.national.com/packaging/folders/mua08a.html
footprint MUA08A_N (TSOP, 8-Leads, Body 3x3mm, Pitch 0.65mm, IPC Medium Density)
footprint MUA08A_L (TSOP, 8-Leads, Body 3x3mm, Pitch 0.65mm, IPC High Density)
footprint MUA08A_M (TSOP, 8-Leads, Body 3x3mm, Pitch 0.65mm, IPC Low Density)
pins: 1 PWRGD (oc), 2 OV (in), 3 UV (in), 4 VEE (power), 5 SEN (in), 6 GATE (out), 7 TIMER (in), 8 VDD (power)

## LM5068MM-3/NOPB
designator U?
Negative Voltage Hot Swap Controller, 8-pin MSOP, Pb-Free; PartNumber: LM5068MM-3/NOPB; Manufacturer: National Semiconductor; PackageTopMarking: ZXTT*S68B; PowerWise: N; CompType: MiscPower; High-Reliability: Y; DatasheetVersion: Dec-2004; PackageVersion: revF, Apr-2008; PackageReference: MUA08A; PackageDescription: MINI SOIC, .118 x .118 x .034in, 8 Lead, .0256in Pitch; RoHS: Y; PinCount: 8; Code_JEDEC: MO-187-AA; ComponentLink1Description: Manufacturer URL; ComponentLink1URL: http://www.national.com/; ComponentLink2Description: LM5068 Datasheet; ComponentLink2URL: http://www.national.com/ds/LM/LM5068.pdf; ComponentLink3Description: LM5068 Web Page; ComponentLink3URL: http://www.national.com/pf/LM/LM5068.html; ComponentLink4Description: MUA08A Package Page; ComponentLink4URL: http://www.national.com/packaging/folders/mua08a.html
footprint MUA08A_N (TSOP, 8-Leads, Body 3x3mm, Pitch 0.65mm, IPC Medium Density)
footprint MUA08A_L (TSOP, 8-Leads, Body 3x3mm, Pitch 0.65mm, IPC High Density)
footprint MUA08A_M (TSOP, 8-Leads, Body 3x3mm, Pitch 0.65mm, IPC Low Density)
pins: 1 PWRGD (oc), 2 OV (in), 3 UV (in), 4 VEE (power), 5 SEN (in), 6 GATE (out), 7 TIMER (in), 8 VDD (power)

## LM5068MM-4
designator U?
Negative Voltage Hot Swap Controller, 8-pin MSOP; PartNumber: LM5068MM-4; Manufacturer: National Semiconductor; PackageTopMarking: ZXTT*S69B; PowerWise: N; CompType: MiscPower; High-Reliability: Y; DatasheetVersion: Dec-2004; PackageVersion: revF, Apr-2008; PackageReference: MUA08A; PackageDescription: MINI SOIC, .118 x .118 x .034in, 8 Lead, .0256in Pitch; RoHS: N; PinCount: 8; Code_JEDEC: MO-187-AA; ComponentLink1Description: Manufacturer URL; ComponentLink1URL: http://www.national.com/; ComponentLink2Description: LM5068 Datasheet; ComponentLink2URL: http://www.national.com/ds/LM/LM5068.pdf; ComponentLink3Description: LM5068 Web Page; ComponentLink3URL: http://www.national.com/pf/LM/LM5068.html; ComponentLink4Description: MUA08A Package Page; ComponentLink4URL: http://www.national.com/packaging/folders/mua08a.html
footprint MUA08A_N (TSOP, 8-Leads, Body 3x3mm, Pitch 0.65mm, IPC Medium Density)
footprint MUA08A_L (TSOP, 8-Leads, Body 3x3mm, Pitch 0.65mm, IPC High Density)
footprint MUA08A_M (TSOP, 8-Leads, Body 3x3mm, Pitch 0.65mm, IPC Low Density)
pins: 1 PWRGD (oc), 2 OV (in), 3 UV (in), 4 VEE (power), 5 SEN (in), 6 GATE (out), 7 TIMER (in), 8 VDD (power)

## LM5068MM-4/NOPB
designator U?
Negative Voltage Hot Swap Controller, 8-pin MSOP, Pb-Free; PartNumber: LM5068MM-4/NOPB; Manufacturer: National Semiconductor; PackageTopMarking: ZXTT*S69B; PowerWise: N; CompType: MiscPower; High-Reliability: Y; DatasheetVersion: Dec-2004; PackageVersion: revF, Apr-2008; PackageReference: MUA08A; PackageDescription: MINI SOIC, .118 x .118 x .034in, 8 Lead, .0256in Pitch; RoHS: Y; PinCount: 8; Code_JEDEC: MO-187-AA; ComponentLink1Description: Manufacturer URL; ComponentLink1URL: http://www.national.com/; ComponentLink2Description: LM5068 Datasheet; ComponentLink2URL: http://www.national.com/ds/LM/LM5068.pdf; ComponentLink3Description: LM5068 Web Page; ComponentLink3URL: http://www.national.com/pf/LM/LM5068.html; ComponentLink4Description: MUA08A Package Page; ComponentLink4URL: http://www.national.com/packaging/folders/mua08a.html
footprint MUA08A_N (TSOP, 8-Leads, Body 3x3mm, Pitch 0.65mm, IPC Medium Density)
footprint MUA08A_L (TSOP, 8-Leads, Body 3x3mm, Pitch 0.65mm, IPC High Density)
footprint MUA08A_M (TSOP, 8-Leads, Body 3x3mm, Pitch 0.65mm, IPC Low Density)
pins: 1 PWRGD (oc), 2 OV (in), 3 UV (in), 4 VEE (power), 5 SEN (in), 6 GATE (out), 7 TIMER (in), 8 VDD (power)

## LM5068MMX-1
designator U?
Negative Voltage Hot Swap Controller, 8-pin MSOP; PartNumber: LM5068MMX-1; Manufacturer: National Semiconductor; PackageTopMarking: ZXTT*S66B; PowerWise: N; CompType: MiscPower; High-Reliability: Y; DatasheetVersion: Dec-2004; PackageVersion: revF, Apr-2008; PackageReference: MUA08A; PackageDescription: MINI SOIC, .118 x .118 x .034in, 8 Lead, .0256in Pitch; RoHS: N; PinCount: 8; Code_JEDEC: MO-187-AA; ComponentLink1Description: Manufacturer URL; ComponentLink1URL: http://www.national.com/; ComponentLink2Description: LM5068 Datasheet; ComponentLink2URL: http://www.national.com/ds/LM/LM5068.pdf; ComponentLink3Description: LM5068 Web Page; ComponentLink3URL: http://www.national.com/pf/LM/LM5068.html; ComponentLink4Description: MUA08A Package Page; ComponentLink4URL: http://www.national.com/packaging/folders/mua08a.html
footprint MUA08A_N (TSOP, 8-Leads, Body 3x3mm, Pitch 0.65mm, IPC Medium Density)
footprint MUA08A_L (TSOP, 8-Leads, Body 3x3mm, Pitch 0.65mm, IPC High Density)
footprint MUA08A_M (TSOP, 8-Leads, Body 3x3mm, Pitch 0.65mm, IPC Low Density)
pins: 1 PWRGD (oc), 2 OV (in), 3 UV (in), 4 VEE (power), 5 SEN (in), 6 GATE (out), 7 TIMER (in), 8 VDD (power)

## LM5068MMX-2
designator U?
Negative Voltage Hot Swap Controller, 8-pin MSOP; PartNumber: LM5068MMX-2; Manufacturer: National Semiconductor; PackageTopMarking: ZXTT*S67B; PowerWise: N; CompType: MiscPower; High-Reliability: Y; DatasheetVersion: Dec-2004; PackageVersion: revF, Apr-2008; PackageReference: MUA08A; PackageDescription: MINI SOIC, .118 x .118 x .034in, 8 Lead, .0256in Pitch; RoHS: N; PinCount: 8; Code_JEDEC: MO-187-AA; ComponentLink1Description: Manufacturer URL; ComponentLink1URL: http://www.national.com/; ComponentLink2Description: LM5068 Datasheet; ComponentLink2URL: http://www.national.com/ds/LM/LM5068.pdf; ComponentLink3Description: LM5068 Web Page; ComponentLink3URL: http://www.national.com/pf/LM/LM5068.html; ComponentLink4Description: MUA08A Package Page; ComponentLink4URL: http://www.national.com/packaging/folders/mua08a.html
footprint MUA08A_N (TSOP, 8-Leads, Body 3x3mm, Pitch 0.65mm, IPC Medium Density)
footprint MUA08A_L (TSOP, 8-Leads, Body 3x3mm, Pitch 0.65mm, IPC High Density)
footprint MUA08A_M (TSOP, 8-Leads, Body 3x3mm, Pitch 0.65mm, IPC Low Density)
pins: 1 PWRGD (oc), 2 OV (in), 3 UV (in), 4 VEE (power), 5 SEN (in), 6 GATE (out), 7 TIMER (in), 8 VDD (power)

## LM5068MMX-3
designator U?
Negative Voltage Hot Swap Controller, 8-pin MSOP; PartNumber: LM5068MMX-3; Manufacturer: National Semiconductor; PackageTopMarking: ZXTT*S68B; PowerWise: N; CompType: MiscPower; High-Reliability: Y; DatasheetVersion: Dec-2004; PackageVersion: revF, Apr-2008; PackageReference: MUA08A; PackageDescription: MINI SOIC, .118 x .118 x .034in, 8 Lead, .0256in Pitch; RoHS: N; PinCount: 8; Code_JEDEC: MO-187-AA; ComponentLink1Description: Manufacturer URL; ComponentLink1URL: http://www.national.com/; ComponentLink2Description: LM5068 Datasheet; ComponentLink2URL: http://www.national.com/ds/LM/LM5068.pdf; ComponentLink3Description: LM5068 Web Page; ComponentLink3URL: http://www.national.com/pf/LM/LM5068.html; ComponentLink4Description: MUA08A Package Page; ComponentLink4URL: http://www.national.com/packaging/folders/mua08a.html
footprint MUA08A_N (TSOP, 8-Leads, Body 3x3mm, Pitch 0.65mm, IPC Medium Density)
footprint MUA08A_L (TSOP, 8-Leads, Body 3x3mm, Pitch 0.65mm, IPC High Density)
footprint MUA08A_M (TSOP, 8-Leads, Body 3x3mm, Pitch 0.65mm, IPC Low Density)
pins: 1 PWRGD (oc), 2 OV (in), 3 UV (in), 4 VEE (power), 5 SEN (in), 6 GATE (out), 7 TIMER (in), 8 VDD (power)

## LM5068MMX-4
designator U?
Negative Voltage Hot Swap Controller, 8-pin MSOP; PartNumber: LM5068MMX-4; Manufacturer: National Semiconductor; PackageTopMarking: ZXTT*S69B; PowerWise: N; CompType: MiscPower; High-Reliability: Y; DatasheetVersion: Dec-2004; PackageVersion: revF, Apr-2008; PackageReference: MUA08A; PackageDescription: MINI SOIC, .118 x .118 x .034in, 8 Lead, .0256in Pitch; RoHS: N; PinCount: 8; Code_JEDEC: MO-187-AA; ComponentLink1Description: Manufacturer URL; ComponentLink1URL: http://www.national.com/; ComponentLink2Description: LM5068 Datasheet; ComponentLink2URL: http://www.national.com/ds/LM/LM5068.pdf; ComponentLink3Description: LM5068 Web Page; ComponentLink3URL: http://www.national.com/pf/LM/LM5068.html; ComponentLink4Description: MUA08A Package Page; ComponentLink4URL: http://www.national.com/packaging/folders/mua08a.html
footprint MUA08A_N (TSOP, 8-Leads, Body 3x3mm, Pitch 0.65mm, IPC Medium Density)
footprint MUA08A_L (TSOP, 8-Leads, Body 3x3mm, Pitch 0.65mm, IPC High Density)
footprint MUA08A_M (TSOP, 8-Leads, Body 3x3mm, Pitch 0.65mm, IPC Low Density)
pins: 1 PWRGD (oc), 2 OV (in), 3 UV (in), 4 VEE (power), 5 SEN (in), 6 GATE (out), 7 TIMER (in), 8 VDD (power)

## LM5069MM-1
designator U?
Positive High Voltage Hot Swap / Inrush Current Controller with Power Limiting, 10-pin MSOP; PartNumber: LM5069MM-1; Manufacturer: National Semiconductor; PackageTopMarking: ZXTT*SNAB; PowerWise: N; CompType: MiscPower; High-Reliability: Y; DatasheetVersion: Mar-2008; PackageVersion: revB, Jul-2003; PackageReference: MUB10A; PackageDescription: Mini-SO, Molded, .118 x .118 x .034in Body, 10 Lead, .0197in Pitch; RoHS: N; PinCount: 10; Code_JEDEC: MO-187-BA; ComponentLink1Description: Manufacturer URL; ComponentLink1URL: http://www.national.com/; ComponentLink2Description: LM5069 Datasheet; ComponentLink2URL: http://www.national.com/ds/LM/LM5069.pdf; ComponentLink3Description: LM5069 Web Page; ComponentLink3URL: http://www.national.com/pf/LM/LM5069.html; ComponentLink4Description: MUB10A Package Page; ComponentLink4URL: http://www.national.com/packaging/folders/mub10a.html
footprint MUB10A_N (TSSOP, 10-Leads, Body 3x3mm, Pitch 0.5mm, IPC Medium Density)
footprint MUB10A_L (TSSOP, 10-Leads, Body 3x3mm, Pitch 0.5mm, IPC High Density)
footprint MUB10A_M (TSSOP, 10-Leads, Body 3x3mm, Pitch 0.5mm, IPC Low Density)
pins: 1 SEN (in), 2 VIN (power), 3 UVLO (in), 4 OVLO (in), 5 GND (power), 6 TIMER (in), 7 PWR (in), 8 PGD (oc), 9 OUT (out), 10 GATE (out)

## LM5069MM-1/NOPB
designator U?
Positive High Voltage Hot Swap / Inrush Current Controller with Power Limiting, 10-pin MSOP, Pb-Free; PartNumber: LM5069MM-1/NOPB; Manufacturer: National Semiconductor; PackageTopMarking: ZXTT*SNAB; PowerWise: N; CompType: MiscPower; High-Reliability: Y; DatasheetVersion: Mar-2008; PackageVersion: revB, Jul-2003; PackageReference: MUB10A; PackageDescription: Mini-SO, Molded, .118 x .118 x .034in Body, 10 Lead, .0197in Pitch; RoHS: Y; PinCount: 10; Code_JEDEC: MO-187-BA; ComponentLink1Description: Manufacturer URL; ComponentLink1URL: http://www.national.com/; ComponentLink2Description: LM5069 Datasheet; ComponentLink2URL: http://www.national.com/ds/LM/LM5069.pdf; ComponentLink3Description: LM5069 Web Page; ComponentLink3URL: http://www.national.com/pf/LM/LM5069.html; ComponentLink4Description: MUB10A Package Page; ComponentLink4URL: http://www.national.com/packaging/folders/mub10a.html
footprint MUB10A_N (TSSOP, 10-Leads, Body 3x3mm, Pitch 0.5mm, IPC Medium Density)
footprint MUB10A_L (TSSOP, 10-Leads, Body 3x3mm, Pitch 0.5mm, IPC High Density)
footprint MUB10A_M (TSSOP, 10-Leads, Body 3x3mm, Pitch 0.5mm, IPC Low Density)
pins: 1 SEN (in), 2 VIN (power), 3 UVLO (in), 4 OVLO (in), 5 GND (power), 6 TIMER (in), 7 PWR (in), 8 PGD (oc), 9 OUT (out), 10 GATE (out)

## LM5069MM-2
designator U?
Positive High Voltage Hot Swap / Inrush Current Controller with Power Limiting, 10-pin MSOP; PartNumber: LM5069MM-2; Manufacturer: National Semiconductor; PackageTopMarking: ZXTT*SNBB; PowerWise: N; CompType: MiscPower; High-Reliability: Y; DatasheetVersion: Mar-2008; PackageVersion: revB, Jul-2003; PackageReference: MUB10A; PackageDescription: Mini-SO, Molded, .118 x .118 x .034in Body, 10 Lead, .0197in Pitch; RoHS: N; PinCount: 10; Code_JEDEC: MO-187-BA; ComponentLink1Description: Manufacturer URL; ComponentLink1URL: http://www.national.com/; ComponentLink2Description: LM5069 Datasheet; ComponentLink2URL: http://www.national.com/ds/LM/LM5069.pdf; ComponentLink3Description: LM5069 Web Page; ComponentLink3URL: http://www.national.com/pf/LM/LM5069.html; ComponentLink4Description: MUB10A Package Page; ComponentLink4URL: http://www.national.com/packaging/folders/mub10a.html
footprint MUB10A_N (TSSOP, 10-Leads, Body 3x3mm, Pitch 0.5mm, IPC Medium Density)
footprint MUB10A_L (TSSOP, 10-Leads, Body 3x3mm, Pitch 0.5mm, IPC High Density)
footprint MUB10A_M (TSSOP, 10-Leads, Body 3x3mm, Pitch 0.5mm, IPC Low Density)
pins: 1 SEN (in), 2 VIN (power), 3 UVLO (in), 4 OVLO (in), 5 GND (power), 6 TIMER (in), 7 PWR (in), 8 PGD (oc), 9 OUT (out), 10 GATE (out)